# EAGLE library part EXIXE12_POGO (library exixe_module)
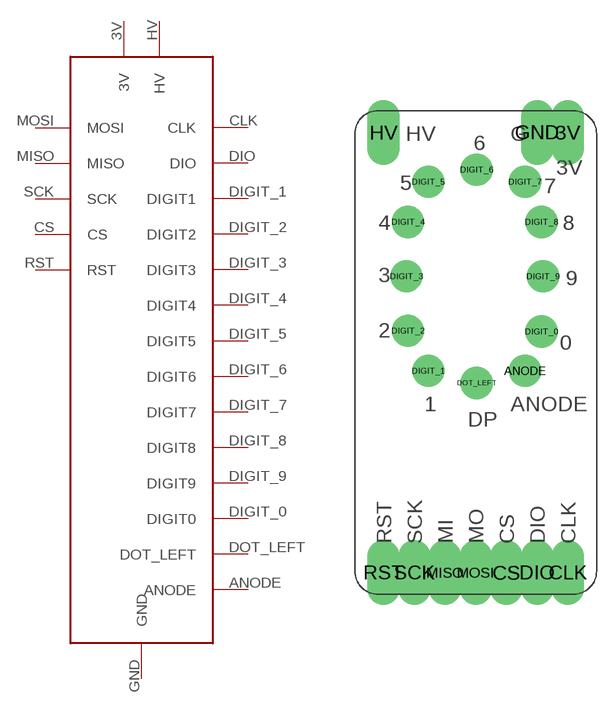
[diagram p0: symbol with the pads of EXIXE12_PAC; footprint EXIXE12_PAC]

Designator prefix -

## EXIXE12_POGO  [EXIXE12_PAC]
3V  3V
ANODE  ANODE
CLK  CLK
CS  CS
DIGIT_0  DIGIT0
DIGIT_1  DIGIT1
DIGIT_2  DIGIT2
DIGIT_3  DIGIT3
DIGIT_4  DIGIT4
DIGIT_5  DIGIT5
DIGIT_6  DIGIT6
DIGIT_7  DIGIT7
DIGIT_8  DIGIT8
DIGIT_9  DIGIT9
DIO  DIO
DOT_LEFT  DOT_LEFT
GND  GND
HV  HV
MISO  MISO
MOSI  MOSI
RST  RST
SCK  SCK

## Footprint EXIXE12_PAC (pad centres in mm)
drill 1.78 pad 2 long: 3V 17.62,38.2; CLK 17.62,1.8; CS 12.54,1.8; DIO 15.08,1.8; GND 15.08,38.2; HV 2.38,38.2; MISO 7.46,1.8; MOSI 10,1.8; RST 2.38,1.8; SCK 4.92,1.8
drill 1.78 pad 2.6: ANODE 14.082,18.483; DIGIT_0 15.447,21.73; DIGIT_1 6.082,18.483; DIGIT_2 4.4,21.8; DIGIT_3 4.273,26.3; DIGIT_4 4.4,30.8; DIGIT_5 6.082,34.117; DIGIT_6 10.082,35.117; DIGIT_7 14.082,34.117; DIGIT_8 15.447,30.8; DIGIT_9 15.575,26.3; DOT_LEFT 10.082,17.483